# EAGLE library part AT45DB041B (library IC)
Atmel AT45BDB041B 4 Mbit 2.5 V or 2.7V DataFlash
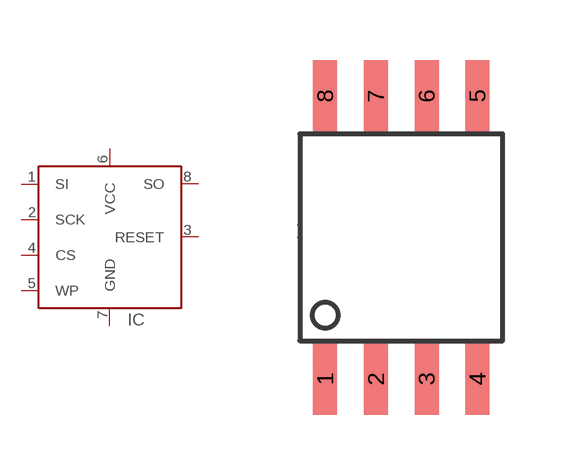
[diagram p58: symbol with the pads of SOIC8_EIAJ; footprint SOIC8_EIAJ]

Designator prefix IC

## AT45DB041B-SO8  [SOIC8_EIAJ]
1  SI  pwr
2  SCK  pwr
3  RESET  pwr
4  CS  pwr
5  WP  pwr
6  VCC  pwr
7  GND  pwr
8  SO  pwr

## Footprint SOIC8_EIAJ (pad centres in mm)
8 pin soic package 0.209" Body
smd 0.6 x 1.8: 1 -1.905,-3.54; 2 -0.635,-3.54; 3 0.635,-3.54; 4 1.905,-3.54; 5 1.905,3.54; 6 0.635,3.54; 7 -0.635,3.54; 8 -1.905,3.54